# Altium footprint library Intercom Gen2 Main PCB.PcbLib: 115 footprints (part 8 of 8)
Each footprint in its own frame and in the unit in brackets; x right, y up, seen from the top. Pads: shape width x height; smd on the part's side, far side on the other; paste and mask are expansions set on the pad; w line width, h text height; cw(c..) or ccw(c..) is an arc to the next point about the centre after c.
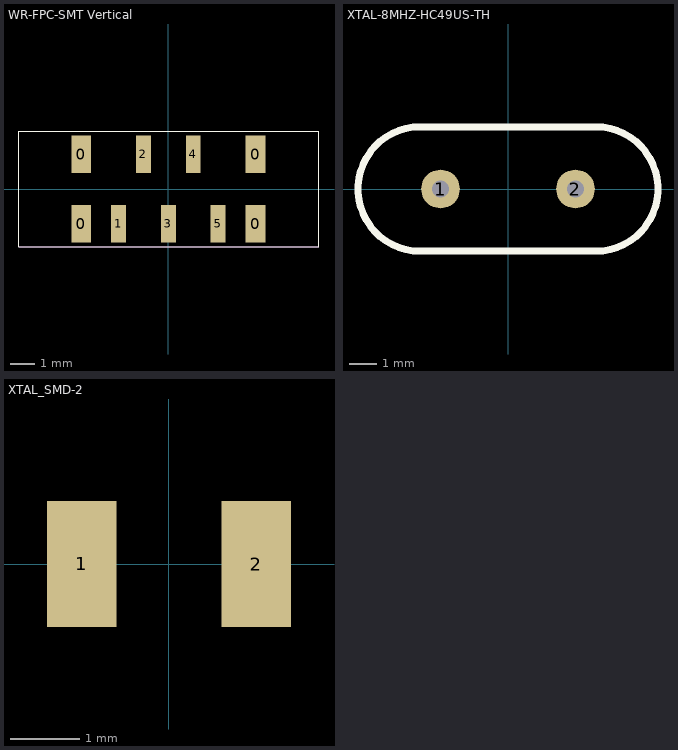
[diagram p7: the footprints below, top view; thin cyan lines are the x and y axes]

## WR-FPC-SMT Vertical [mm] "Wurth Electronik Connector"
pads (9):
  rect 0.8x1.5 smd: 0(-3.5,-1.4) 0(-3.5,1.4) 0(3.5,-1.4) 0(3.5,1.4)
  rect 0.6x1.5 smd: 1(-2,-1.4) 2(-1,1.4) 3(0,-1.4) 4(1,1.4) 5(2,-1.4)
Top Overlay:
  lines w0.05: -6,-2.325 -6,2.325 6.05,2.325 6.05,-2.325 -6,-2.325
Mechanical 1:
  lines w0.05: -6,-2.325 -6,2.325 6.05,2.325 6.05,-2.325 -6,-2.325
  text ".designator" at -2.125,-0.162 h1
3D body "Wurth_Vertical_ Connector.stp": height 4.01, standoff -0.01, extent -5.875,-1.75 5.925,1.85

## XTAL-8MHZ-HC49US-TH [mm]
height 2.54
pads (2):
  round 1.4 hole 0.6: 1(-2.44,0) 2(2.44,0)
Top Overlay:
  lines w0.254: -3.175,-2.25 cw(c-3.175,0) -3.175,2.25 3.175,2.25 cw(c3.175,0) 3.175,-2.25 -3.175,-2.25
3D body "SW3dPS-HP49US.step": height 3.52, standoff -3.98, extent -5.675,-2.325 5.675,2.325

## XTAL_SMD-2 [mm]
pads (2):
  rect 1x1.8 smd paste-0.1: 1(-1.25,0) 2(1.25,0)
3D body "NDK_NX3215SA.STEP": height 0.8, standoff 0, extent -1.6,-0.75 1.6,0.75